# Altium footprint library TFP410PAP.PcbLib: 3 footprints
Each footprint in its own frame and in the unit in brackets; x right, y up, seen from the top. Pads: shape width x height; smd on the part's side, far side on the other; paste and mask are expansions set on the pad; w line width, h text height; cw(c..) or ccw(c..) is an arc to the next point about the centre after c.
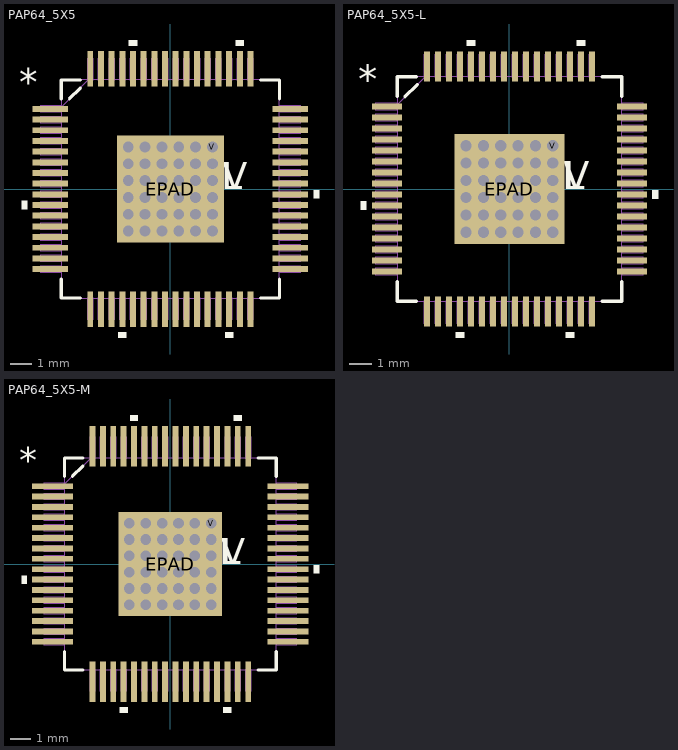
[diagram p0: the footprints below, top view; thin cyan lines are the x and y axes]

## PAP64_5X5 [mil]
pads (101):
  rect 65.5x11 smd: 1(-221.25,147.64) 2(-221.25,127.95) 3(-221.25,108.27) 4(-221.25,88.58) 5(-221.25,68.9) 6(-221.25,49.21) 7(-221.25,29.53) 8(-221.25,9.84) 9(-221.25,-9.84) 10(-221.25,-29.53) 11(-221.25,-49.21) 12(-221.25,-68.9) 13(-221.25,-88.58) 14(-221.25,-108.27) 15(-221.25,-127.95) 16(-221.25,-147.64) 33(221.25,-147.64) 34(221.25,-127.95) 35(221.25,-108.27) 36(221.25,-88.58) 37(221.25,-68.9) 38(221.25,-49.21) 39(221.25,-29.53) 40(221.25,-9.84) 41(221.25,9.84) 42(221.25,29.53) 43(221.25,49.21) 44(221.25,68.9) 45(221.25,88.58) 46(221.25,108.27) 47(221.25,127.95) 48(221.25,147.64)
  rect 11x65.5 smd: 17(-147.64,-221.25) 18(-127.95,-221.25) 19(-108.27,-221.25) 20(-88.58,-221.25) 21(-68.9,-221.25) 22(-49.21,-221.25) 23(-29.53,-221.25) 24(-9.84,-221.25) 25(9.84,-221.25) 26(29.53,-221.25) 27(49.21,-221.25) 28(68.9,-221.25) 29(88.58,-221.25) 30(108.27,-221.25) 31(127.95,-221.25) 32(147.64,-221.25) 49(147.64,221.25) 50(127.95,221.25) 51(108.27,221.25) 52(88.58,221.25) 53(68.9,221.25) 54(49.21,221.25) 55(29.53,221.25) 56(9.84,221.25) 57(-9.84,221.25) 58(-29.53,221.25) 59(-49.21,221.25) 60(-68.9,221.25) 61(-88.58,221.25) 62(-108.27,221.25) 63(-127.95,221.25) 64(-147.64,221.25)
  rect 196.85x196.85 smd paste-97.93 mask-98: EPAD(0,0)
  round 20 / inner round 60 / far side round 20 hole 20: V(77.5,77.5) V_2(-77.5,-46.5) V_3(-77.5,-77.5) V_4(-77.5,-15.5) V_5(-77.5,15.5) V_6(-77.5,46.5) V_7(-77.5,77.5) V_8(-46.5,-77.5) V_9(-46.5,-46.5) V_10(-46.5,-15.5) V_11(-46.5,15.5) V_12(-46.5,46.5) V_13(-46.5,77.5) V_14(-15.5,-77.5) V_15(-15.5,-46.5) V_16(-15.5,-15.5) V_17(-15.5,15.5) V_18(-15.5,46.5) V_19(-15.5,77.5) V_20(15.5,-77.5) V_21(15.5,-46.5) V_22(15.5,-15.5) V_23(15.5,15.5) V_24(15.5,46.5) V_25(15.5,77.5) V_26(46.5,-77.5) V_27(46.5,-46.5) V_28(46.5,-15.5) V_29(46.5,15.5) V_30(46.5,46.5) V_31(46.5,77.5) V_32(77.5,-77.5) V_33(77.5,-46.5) V_34(77.5,-15.5) V_35(77.5,15.5) V_36(77.5,46.5)
Top Overlay:
  region: -264,-22.03 -274,-22.03 -274,-37.03 -264,-37.03
  region: -81.08,-264 -96.08,-264 -96.08,-274 -81.08,-274
  region: 115.77,-264 100.77,-264 100.77,-274 115.77,-274
  region: 264,-2.34 274,-2.34 274,-17.34 264,-17.34
  region: 135.45,264 120.45,264 120.45,274 135.45,274
  region: -61.4,264 -76.4,264 -76.4,274 -61.4,274
  lines w6: -201,-166.24 -201,-201 -166.24,-201 ; -201,166.24 -201,201 -166.24,201 ; -186,166 -166,186 ; 166.24,-201 201,-201 201,-166.24 ; 166.24,201 201,201 201,166.24
  text "*" at -279,172.48 h50
  text "PN" at 0,0 h50
  text "DEV" at 0,0 h50
  text "VAL" at 0,0 h50
  text "TOL" at 0,0 h50
Top Paste:
  drawing of 49 lines, arcs and shapes, not listed
Top Solder:
  region: -100.93,85.37 -100.93,100.93 100.93,100.93 100.93,85.37
  region: -100.93,54.37 -100.93,69.63 100.93,69.63 100.93,54.37
  region: -100.93,23.37 -100.93,38.63 100.93,38.63 100.93,23.37
  region: -100.93,-7.63 -100.93,7.63 100.93,7.63 100.93,-7.63
  region: -100.93,-38.63 -100.93,-23.37 100.93,-23.37 100.93,-38.63
  region: -100.93,-69.63 -100.93,-54.37 100.93,-54.37 100.93,-69.63
  region: -100.93,-100.93 -100.93,-85.37 100.93,-85.37 100.93,-100.93
  region: -100.93,-100.93 -100.93,100.93 -85.37,100.93 -85.37,-100.93
  region: -54.37,-100.93 -54.37,100.93 -69.63,100.93 -69.63,-100.93
  region: -23.37,-100.93 -23.37,100.93 -38.63,100.93 -38.63,-100.93
  region: 7.63,-100.93 7.63,100.93 -7.63,100.93 -7.63,-100.93
  region: 38.63,-100.93 38.63,100.93 23.37,100.93 23.37,-100.93
  region: 69.63,-100.93 69.63,100.93 54.37,100.93 54.37,-100.93
  region: 85.37,-100.93 85.37,100.93 100.93,100.93 100.93,-100.93
Mechanical 1:
  drawing of 265 lines, arcs and shapes, not listed
  text "*" at -279,172.48 h50
  text "RefDes2" at 0,0 h50

## PAP64_5X5-L [mil]
pads (101):
  rect 53.5x11 smd: 1(-219.25,147.64) 2(-219.25,127.95) 3(-219.25,108.27) 4(-219.25,88.58) 5(-219.25,68.9) 6(-219.25,49.21) 7(-219.25,29.53) 8(-219.25,9.84) 9(-219.25,-9.84) 10(-219.25,-29.53) 11(-219.25,-49.21) 12(-219.25,-68.9) 13(-219.25,-88.58) 14(-219.25,-108.27) 15(-219.25,-127.95) 16(-219.25,-147.64) 33(219.25,-147.64) 34(219.25,-127.95) 35(219.25,-108.27) 36(219.25,-88.58) 37(219.25,-68.9) 38(219.25,-49.21) 39(219.25,-29.53) 40(219.25,-9.84) 41(219.25,9.84) 42(219.25,29.53) 43(219.25,49.21) 44(219.25,68.9) 45(219.25,88.58) 46(219.25,108.27) 47(219.25,127.95) 48(219.25,147.64)
  rect 11x53.5 smd: 17(-147.64,-219.25) 18(-127.95,-219.25) 19(-108.27,-219.25) 20(-88.58,-219.25) 21(-68.9,-219.25) 22(-49.21,-219.25) 23(-29.53,-219.25) 24(-9.84,-219.25) 25(9.84,-219.25) 26(29.53,-219.25) 27(49.21,-219.25) 28(68.9,-219.25) 29(88.58,-219.25) 30(108.27,-219.25) 31(127.95,-219.25) 32(147.64,-219.25) 49(147.64,219.25) 50(127.95,219.25) 51(108.27,219.25) 52(88.58,219.25) 53(68.9,219.25) 54(49.21,219.25) 55(29.53,219.25) 56(9.84,219.25) 57(-9.84,219.25) 58(-29.53,219.25) 59(-49.21,219.25) 60(-68.9,219.25) 61(-88.58,219.25) 62(-108.27,219.25) 63(-127.95,219.25) 64(-147.64,219.25)
  rect 196.85x196.85 smd paste-97.93 mask-98: EPAD(0,0)
  round 20 / inner round 60 / far side round 20 hole 20: V(77.5,77.5) V_2(-77.5,-46.5) V_3(-77.5,-77.5) V_4(-77.5,-15.5) V_5(-77.5,15.5) V_6(-77.5,46.5) V_7(-77.5,77.5) V_8(-46.5,-77.5) V_9(-46.5,-46.5) V_10(-46.5,-15.5) V_11(-46.5,15.5) V_12(-46.5,46.5) V_13(-46.5,77.5) V_14(-15.5,-77.5) V_15(-15.5,-46.5) V_16(-15.5,-15.5) V_17(-15.5,15.5) V_18(-15.5,46.5) V_19(-15.5,77.5) V_20(15.5,-77.5) V_21(15.5,-46.5) V_22(15.5,-15.5) V_23(15.5,15.5) V_24(15.5,46.5) V_25(15.5,77.5) V_26(46.5,-77.5) V_27(46.5,-46.5) V_28(46.5,-15.5) V_29(46.5,15.5) V_30(46.5,46.5) V_31(46.5,77.5) V_32(77.5,-77.5) V_33(77.5,-46.5) V_34(77.5,-15.5) V_35(77.5,15.5) V_36(77.5,46.5)
Top Overlay:
  region: -256,-22.03 -266,-22.03 -266,-37.03 -256,-37.03
  region: -81.08,-256 -96.08,-256 -96.08,-266 -81.08,-266
  region: 115.77,-256 100.77,-256 100.77,-266 115.77,-266
  region: 256,-2.34 266,-2.34 266,-17.34 256,-17.34
  region: 135.45,256 120.45,256 120.45,266 135.45,266
  region: -61.4,256 -76.4,256 -76.4,266 -61.4,266
  lines w6: -201,-166.24 -201,-201 -166.24,-201 ; -201,166.24 -201,201 -166.24,201 ; -186.98,165.02 -165.02,186.98 ; 166.24,-201 201,-201 201,-166.24 ; 166.24,201 201,201 201,166.24
  text "*" at -271,172.48 h50
  text "PN" at 0,0 h50
  text "DEV" at 0,0 h50
  text "VAL" at 0,0 h50
  text "TOL" at 0,0 h50
Top Paste:
  drawing of 49 lines, arcs and shapes, not listed
Top Solder:
  region: -100.93,85.37 -100.93,100.93 100.93,100.93 100.93,85.37
  region: -100.93,54.37 -100.93,69.63 100.93,69.63 100.93,54.37
  region: -100.93,23.37 -100.93,38.63 100.93,38.63 100.93,23.37
  region: -100.93,-7.63 -100.93,7.63 100.93,7.63 100.93,-7.63
  region: -100.93,-38.63 -100.93,-23.37 100.93,-23.37 100.93,-38.63
  region: -100.93,-69.63 -100.93,-54.37 100.93,-54.37 100.93,-69.63
  region: -100.93,-100.93 -100.93,-85.37 100.93,-85.37 100.93,-100.93
  region: -100.93,-100.93 -100.93,100.93 -85.37,100.93 -85.37,-100.93
  region: -54.37,-100.93 -54.37,100.93 -69.63,100.93 -69.63,-100.93
  region: -23.37,-100.93 -23.37,100.93 -38.63,100.93 -38.63,-100.93
  region: 7.63,-100.93 7.63,100.93 -7.63,100.93 -7.63,-100.93
  region: 38.63,-100.93 38.63,100.93 23.37,100.93 23.37,-100.93
  region: 69.63,-100.93 69.63,100.93 54.37,100.93 54.37,-100.93
  region: 85.37,-100.93 85.37,100.93 100.93,100.93 100.93,-100.93
Mechanical 1:
  drawing of 265 lines, arcs and shapes, not listed
  text "*" at -271,172.48 h50
  text "RefDes2" at 0,0 h50

## PAP64_5X5-M [mil]
pads (101):
  rect 77.5x11 smd: 1(-223.25,147.64) 2(-223.25,127.95) 3(-223.25,108.27) 4(-223.25,88.58) 5(-223.25,68.9) 6(-223.25,49.21) 7(-223.25,29.53) 8(-223.25,9.84) 9(-223.25,-9.84) 10(-223.25,-29.53) 11(-223.25,-49.21) 12(-223.25,-68.9) 13(-223.25,-88.58) 14(-223.25,-108.27) 15(-223.25,-127.95) 16(-223.25,-147.64) 33(223.25,-147.64) 34(223.25,-127.95) 35(223.25,-108.27) 36(223.25,-88.58) 37(223.25,-68.9) 38(223.25,-49.21) 39(223.25,-29.53) 40(223.25,-9.84) 41(223.25,9.84) 42(223.25,29.53) 43(223.25,49.21) 44(223.25,68.9) 45(223.25,88.58) 46(223.25,108.27) 47(223.25,127.95) 48(223.25,147.64)
  rect 11x77.5 smd: 17(-147.64,-223.25) 18(-127.95,-223.25) 19(-108.27,-223.25) 20(-88.58,-223.25) 21(-68.9,-223.25) 22(-49.21,-223.25) 23(-29.53,-223.25) 24(-9.84,-223.25) 25(9.84,-223.25) 26(29.53,-223.25) 27(49.21,-223.25) 28(68.9,-223.25) 29(88.58,-223.25) 30(108.27,-223.25) 31(127.95,-223.25) 32(147.64,-223.25) 49(147.64,223.25) 50(127.95,223.25) 51(108.27,223.25) 52(88.58,223.25) 53(68.9,223.25) 54(49.21,223.25) 55(29.53,223.25) 56(9.84,223.25) 57(-9.84,223.25) 58(-29.53,223.25) 59(-49.21,223.25) 60(-68.9,223.25) 61(-88.58,223.25) 62(-108.27,223.25) 63(-127.95,223.25) 64(-147.64,223.25)
  rect 196.85x196.85 smd paste-97.93 mask-98: EPAD(0,0)
  round 20 / inner round 60 / far side round 20 hole 20: V(77.5,77.5) V_2(-77.5,-46.5) V_3(-77.5,-77.5) V_4(-77.5,-15.5) V_5(-77.5,15.5) V_6(-77.5,46.5) V_7(-77.5,77.5) V_8(-46.5,-77.5) V_9(-46.5,-46.5) V_10(-46.5,-15.5) V_11(-46.5,15.5) V_12(-46.5,46.5) V_13(-46.5,77.5) V_14(-15.5,-77.5) V_15(-15.5,-46.5) V_16(-15.5,-15.5) V_17(-15.5,15.5) V_18(-15.5,46.5) V_19(-15.5,77.5) V_20(15.5,-77.5) V_21(15.5,-46.5) V_22(15.5,-15.5) V_23(15.5,15.5) V_24(15.5,46.5) V_25(15.5,77.5) V_26(46.5,-77.5) V_27(46.5,-46.5) V_28(46.5,-15.5) V_29(46.5,15.5) V_30(46.5,46.5) V_31(46.5,77.5) V_32(77.5,-77.5) V_33(77.5,-46.5) V_34(77.5,-15.5) V_35(77.5,15.5) V_36(77.5,46.5)
Top Overlay:
  region: -272,-22.03 -282,-22.03 -282,-37.03 -272,-37.03
  region: -81.08,-272 -96.08,-272 -96.08,-282 -81.08,-282
  region: 115.77,-272 100.77,-272 100.77,-282 115.77,-282
  region: 272,-2.34 282,-2.34 282,-17.34 272,-17.34
  region: 135.45,272 120.45,272 120.45,282 135.45,282
  region: -61.4,272 -76.4,272 -76.4,282 -61.4,282
  lines w6: -201,-166.24 -201,-201 -166.24,-201 ; -201,166.24 -201,201 -166.24,201 ; -185.76,166.24 -166.24,185.76 ; 166.24,-201 201,-201 201,-166.24 ; 166.24,201 201,201 201,166.24
  text "*" at -287,172.48 h50
  text "PN" at 0,0 h50
  text "DEV" at 0,0 h50
  text "VAL" at 0,0 h50
  text "TOL" at 0,0 h50
Top Paste:
  drawing of 49 lines, arcs and shapes, not listed
Top Solder:
  region: -100.93,85.37 -100.93,100.93 100.93,100.93 100.93,85.37
  region: -100.93,54.37 -100.93,69.63 100.93,69.63 100.93,54.37
  region: -100.93,23.37 -100.93,38.63 100.93,38.63 100.93,23.37
  region: -100.93,-7.63 -100.93,7.63 100.93,7.63 100.93,-7.63
  region: -100.93,-38.63 -100.93,-23.37 100.93,-23.37 100.93,-38.63
  region: -100.93,-69.63 -100.93,-54.37 100.93,-54.37 100.93,-69.63
  region: -100.93,-100.93 -100.93,-85.37 100.93,-85.37 100.93,-100.93
  region: -100.93,-100.93 -100.93,100.93 -85.37,100.93 -85.37,-100.93
  region: -54.37,-100.93 -54.37,100.93 -69.63,100.93 -69.63,-100.93
  region: -23.37,-100.93 -23.37,100.93 -38.63,100.93 -38.63,-100.93
  region: 7.63,-100.93 7.63,100.93 -7.63,100.93 -7.63,-100.93
  region: 38.63,-100.93 38.63,100.93 23.37,100.93 23.37,-100.93
  region: 69.63,-100.93 69.63,100.93 54.37,100.93 54.37,-100.93
  region: 85.37,-100.93 85.37,100.93 100.93,100.93 100.93,-100.93
Mechanical 1:
  drawing of 265 lines, arcs and shapes, not listed
  text "*" at -287,172.48 h50
  text "RefDes2" at 0,0 h50